# Altium footprint library CP2102.PcbLib: 1 footprints
Each footprint in its own frame and in the unit in brackets; x right, y up, seen from the top. Pads: shape width x height; smd on the part's side, far side on the other; paste and mask are expansions set on the pad; w line width, h text height; cw(c..) or ccw(c..) is an arc to the next point about the centre after c.
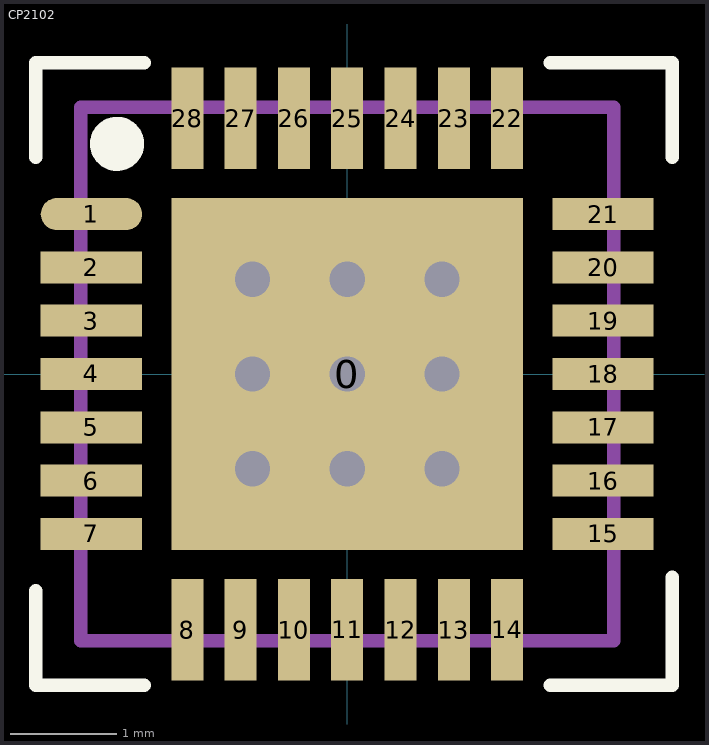
[diagram p0: the footprint, top view; thin cyan lines are the x and y axes]

## CP2102 [mm]
pads (29):
  rect 3.3x3.3 smd mask+0: 0(0,0)
  oval 0.95x0.3 smd mask+0: 1(-2.4,1.5)
  rect 0.95x0.3 smd mask+0: 2(-2.4,1) 3(-2.4,0.5) 4(-2.4,0) 5(-2.4,-0.5) 6(-2.4,-1) 7(-2.4,-1.5) 15(2.4,-1.5) 16(2.4,-1) 17(2.4,-0.5) 18(2.4,0) 19(2.4,0.5) 20(2.4,1) 21(2.4,1.5)
  rect 0.3x0.95 smd mask+0: 8(-1.5,-2.4) 9(-1,-2.4) 10(-0.5,-2.4) 11(0,-2.4) 12(0.5,-2.4) 13(1,-2.4) 14(1.5,-2.4) 22(1.5,2.4) 23(1,2.4) 24(0.5,2.4) 25(0,2.4) 26(-0.5,2.4) 27(-1,2.4) 28(-1.5,2.4)
via -0.889,0.889 diameter 0.381 hole 0.33
via -0.889,-0.889 diameter 0.381 hole 0.33
via -0.889,0 diameter 0.381 hole 0.33
via 0.889,0.889 diameter 0.381 hole 0.33
via 0.889,0 diameter 0.381 hole 0.33
via 0.889,-0.889 diameter 0.381 hole 0.33
via 0,-0.889 diameter 0.381 hole 0.33
via 0,0.889 diameter 0.381 hole 0.33
via 0,0 diameter 0.381 hole 0.33
Top Overlay:
  circle w0.254: c-2.159,2.159 r0.127
  lines w0.127: -2.921,-2.032 -2.921,-2.921 -1.905,-2.921 ; -2.921,2.032 -2.921,2.921 -1.905,2.921 ; 1.905,-2.921 2.794,-2.921 3.048,-2.921 3.048,-1.905 ; 1.905,2.921 3.048,2.921 3.048,2.032
Mechanical 1:
  lines w0.127: -2.5,-2.5 2.5,-2.5 2.5,2.5 -2.5,2.5 -2.5,-2.5
3D body: height 1, standoff 0.05, extent -1.675,-1.675 1.675,1.675
3D body: height 1, standoff 0.05, extent -2.5,-2.5 2.5,2.5